# EAGLE library part INA225AIDGKR (library INA225)
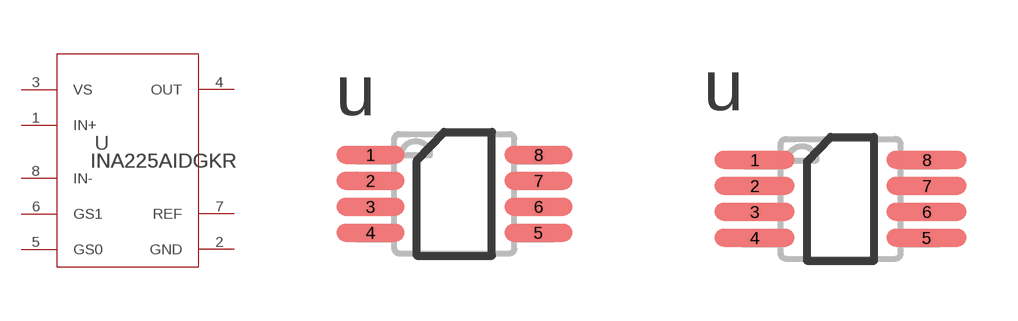
[diagram p0: symbol with the pads of DGK0008A_N; footprints DGK0008A_N, DGK0008A_M]

Designator prefix U

## INA225AIDGKR (COPYRIGHT: Copyright (C) 2022 Ultra Librarian. All rights reserved.; MANUFACTURER_PART_NUMBER: INA225AIDGKR; MFR_NAME: Texas Instruments; REFDES: RefDes; TYPE: TYPE)  [DGK0008A_N]
1  IN+  in
2  GND  pwr
3  VS  pwr
4  OUT  pwr
5  GS0  in
6  GS1  in
7  REF  in
8  IN-  in

## INA225AIDGKRDGK0008A_M (COPYRIGHT: Copyright (C) 2022 Ultra Librarian. All rights reserved.; MANUFACTURER_PART_NUMBER: INA225AIDGKR; MFR_NAME: Texas Instruments; REFDES: RefDes; TYPE: TYPE)  [DGK0008A_M]
Pads as for DGK0008A_N

## INA225AIDGKRDGK0008A_L (COPYRIGHT: Copyright (C) 2022 Ultra Librarian. All rights reserved.; MANUFACTURER_PART_NUMBER: INA225AIDGKR; MFR_NAME: Texas Instruments; REFDES: RefDes; TYPE: TYPE)  [DGK0008A_L]
Pads as for DGK0008A_N

## Footprint DGK0008A_N (pad centres in mm)
smd 1.7 x 0.45: 1 -2.1,0.975; 2 -2.1,0.325; 3 -2.1,-0.325; 4 -2.1,-0.975; 5 2.1,-0.975; 6 2.1,-0.325; 7 2.1,0.325; 8 2.1,0.975

## Footprint DGK0008A_M (pad centres in mm)
smd 2 x 0.45: 1 -2.15,0.975; 2 -2.15,0.325; 3 -2.15,-0.325; 4 -2.15,-0.975; 5 2.15,-0.975; 6 2.15,-0.325; 7 2.15,0.325; 8 2.15,0.975

## Footprint DGK0008A_L (pad centres in mm)
smd 1.4 x 0.45: 1 -2.05,0.975; 2 -2.05,0.325; 3 -2.05,-0.325; 4 -2.05,-0.975; 5 2.05,-0.975; 6 2.05,-0.325; 7 2.05,0.325; 8 2.05,0.975